# EAGLE library part FPC50E-26PBX (library m_connector)
50E-NPBX Flat Cable 26 Pin Header
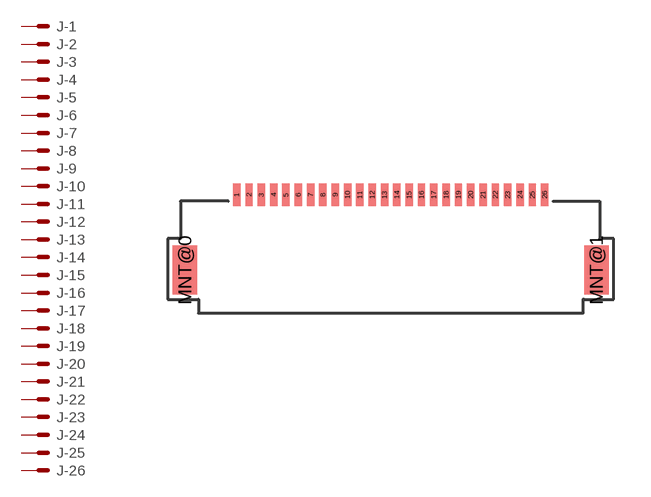
[diagram p25: symbol with the pads of 50E-26PBX; footprint 50E-26PBX]

Designator prefix J; gates -1=M -2=M -3=M -4=M -5=M -6=M -7=M -8=M -9=M -10=M -11=M -12=M -13=M -14=M -15=M -16=M -17=M -18=M -19=M -20=M -21=M -22=M -23=M -24=M -25=M -26=M

## FPC50E-26PBX (PARTNUM: FPC50E-26PBX)  [50E-26PBX]
1  -1:S  pas
2  -2:S  pas
3  -3:S  pas
4  -4:S  pas
5  -5:S  pas
6  -6:S  pas
7  -7:S  pas
8  -8:S  pas
9  -9:S  pas
10  -10:S  pas
11  -11:S  pas
12  -12:S  pas
13  -13:S  pas
14  -14:S  pas
15  -15:S  pas
16  -16:S  pas
17  -17:S  pas
18  -18:S  pas
19  -19:S  pas
20  -20:S  pas
21  -21:S  pas
22  -22:S  pas
23  -23:S  pas
24  -24:S  pas
25  -25:S  pas
26  -26:S  pas

## Footprint 50E-26PBX (pad centres in mm)
smd 0.3 x 0.9: 1 -6.096,2.794; 2 -5.596,2.794; 3 -5.096,2.794; 4 -4.596,2.794; 5 -4.096,2.794; 6 -3.596,2.794; 7 -3.096,2.794; 8 -2.596,2.794; 9 -2.096,2.794; 10 -1.596,2.794; 11 -1.096,2.794; 12 -0.596,2.794; 13 -0.096,2.794; 14 0.404,2.794; 15 0.904,2.794; 16 1.404,2.794; 17 1.904,2.794; 18 2.404,2.794; 19 2.904,2.794; 20 3.404,2.794; 21 3.904,2.794; 22 4.404,2.794; 23 4.904,2.794; 24 5.404,2.794; 25 5.904,2.794; 26 6.404,2.794
smd 1 x 2: MNT@0 -8.196,-0.251; MNT@1 8.504,-0.251